# Altium integrated library Isolated.IntLib: 1 symbol
Pins are listed as number, name and electrical type; pins without a type are passive.

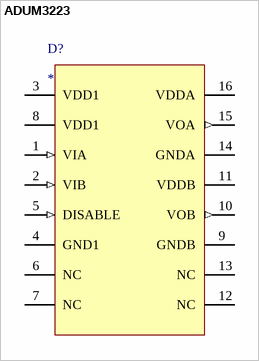
[diagram p0: symbol ADUM3223]

## ADUM3223
designator D?
Manufacturer: ANALOG DEVICES; Manufacturer Part Number: ADUM3223BRZ; Description: ANALOG DEVICES - ADUM3223BRZ - DRIVER, GATE, 1MHZ, 4A, 4.5V, 16SOIC; No. of Channels: 2; Propagation Delay: 38; Supply Voltage Min: 3; Supply Voltage Max: 5.5; Interface Case Style: SOIC; No. of Pins: 16; SVHC: No SVHC (15-Jun-2015); Device Type: IGBT, MOSFET; Driver Configuration: Half Bridge; Peak Output Current: 4; Supply Voltage Range: 3V to 5.5V<!--FANDB--><div class="features-and-benefits-container"><div class="features-and-benefits-description"><span class="features-benefits-value">The ADUM3223; Supplier 1: Farnell; RoHS: YES; Stock 1: 131; Pricing 1: 1=3,48, 10=2,78, 25=2,5, 50=2,34, 100=2,28, 250=2,05, 500=1,59, 2000=1,5 (GBP); Operating Temperature Min: -40; Operating Temperature Max: 125; Packaging: Each; MSL: MSL 1 - Unlimited; Driver Case Style: SOIC; Module Configuration: Half Bridge; Operating Temperature Range: -40°C to +125; ComponentLink1URL: http://www.farnell.com/richmedia/1816743.mp4; ComponentLink1Description: http://www.farnell.com/richmedia/1816743.mp4; ComponentLink2URL: http://www.farnell.com/datasheets/1962236.pdf; ComponentLink2Description: http://www.farnell.com/datasheets/1962236.pdf; ComponentLink3URL: http://www.farnell.com/cad/1713589.zip; ComponentLink3Description: http://www.farnell.com/cad/1713589.zip; ComponentLink4URL: http://www.farnell.com/datasheets/1829036.pdf; ComponentLink4Description: http://www.farnell.com/datasheets/1829036.pdf; Supplier Part Number 1: 2127170
footprint ADI-R-16_N (SOIC, 16-Leads, Body 9.9x3.9mm, Pitch 1.27mm, IPC Medium Density)
footprint ADI-RW-16_N (SOIC, 16-Leads, Body 10.3x7.5mm, Pitch 1.27mm, IPC Medium Density)
pins: 1 VIA (in) "Logic Input A.", 2 VIB (in) "Logic Input B.", 3 VDD1 (power) "Logic Input A.", 4 GND1 (power) "Logic Input B.", 5 DISABLE (in) "Logic Input B.", 6 NC "Logic Input B.", 7 NC "Logic Input B.", 8 VDD1 (power) "Logic Input B.", 9 GNDB (power) "Logic Input B.", 10 VOB (out) "Logic Output B.", 11 VDDB (power) "Logic Input A.", 12 NC "Logic Input B.", 13 NC "Logic Input B.", 14 GNDA (power) "Logic Input B.", 15 VOA (out) "Logic Output A.", 16 VDDA (power) "Logic Input A."